# EAGLE library part PIC18F14K50 (library g5pwlib)
PIC 18F14k50 microcontroller
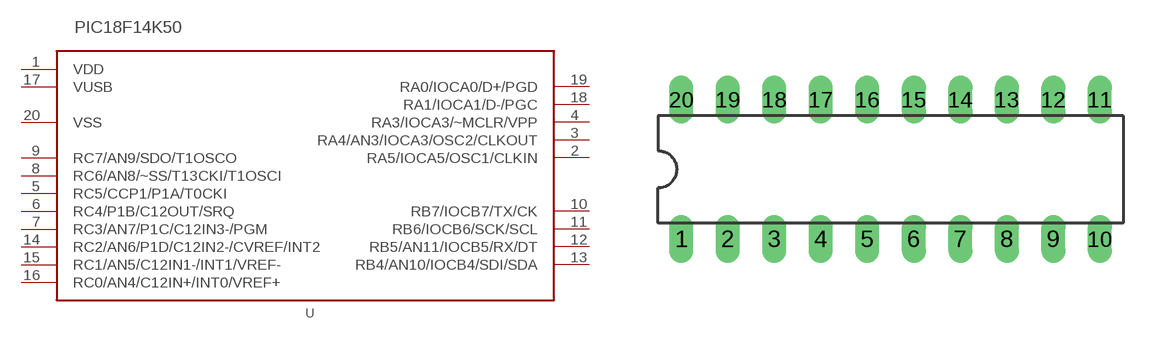
[diagram p0: symbol with the pads of DIP20; footprint DIP20]

Designator prefix -

## PIC18F14K50  [DIP20]
1  VDD  pwr
2  RA5/IOCA5/OSC1/CLKIN
3  RA4/AN3/IOCA3/OSC2/CLKOUT
4  RA3/IOCA3/~MCLR/VPP
5  RC5/CCP1/P1A/T0CKI
6  RC4/P1B/C12OUT/SRQ
7  RC3/AN7/P1C/C12IN3-/PGM
8  RC6/AN8/~SS/T13CKI/T1OSCI
9  RC7/AN9/SDO/T1OSCO
10  RB7/IOCB7/TX/CK
11  RB6/IOCB6/SCK/SCL
12  RB5/AN11/IOCB5/RX/DT
13  RB4/AN10/IOCB4/SDI/SDA
14  RC2/AN6/P1D/C12IN2-/CVREF/INT2
15  RC1/AN5/C12IN1-/INT1/VREF-
16  RC0/AN4/C12IN+/INT0/VREF+
17  VUSB  pwr
18  RA1/IOCA1/D-/PGC
19  RA0/IOCA0/D+/PGD
20  VSS  pwr

## Footprint DIP20 (pad centres in mm)
Dual in line package, 20 pin
drill 0.813 long: 1 -11.43,-3.81; 2 -8.89,-3.81; 3 -6.35,-3.81; 4 -3.81,-3.81; 5 -1.27,-3.81; 6 1.27,-3.81; 7 3.81,-3.81; 8 6.35,-3.81; 9 8.89,-3.81; 10 11.43,-3.81; 11 11.43,3.81; 12 8.89,3.81; 13 6.35,3.81; 14 3.81,3.81; 15 1.27,3.81; 16 -1.27,3.81; 17 -3.81,3.81; 18 -6.35,3.81; 19 -8.89,3.81; 20 -11.43,3.81